# EAGLE library part MCP4725 (library FansElectronics-Modul)
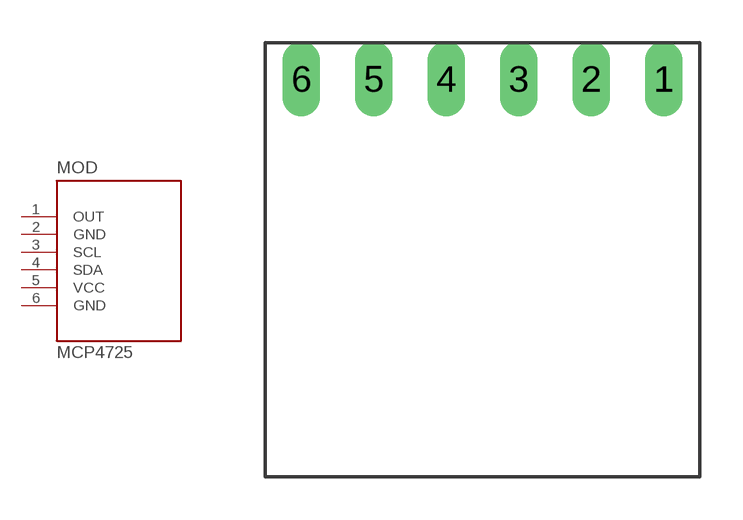
[diagram p34: symbol with the pads of MCP4725; footprint MCP4725]

Designator prefix MOD

## MCP4725  [MCP4725]
1  OUT  out
2  GND  pwr
3  SCL
4  SDA
5  VCC  pwr
6  GND  pwr

## Footprint MCP4725 (pad centres in mm)
drill 0.8 long: 1 6.35,0; 2 3.81,0; 3 1.27,0; 4 -1.27,0; 5 -3.81,0; 6 -6.35,0